# Altium schematic symbol library TCM.SchLib: 17 symbols
Pins are listed as number, name and electrical type; pins without a type are passive.

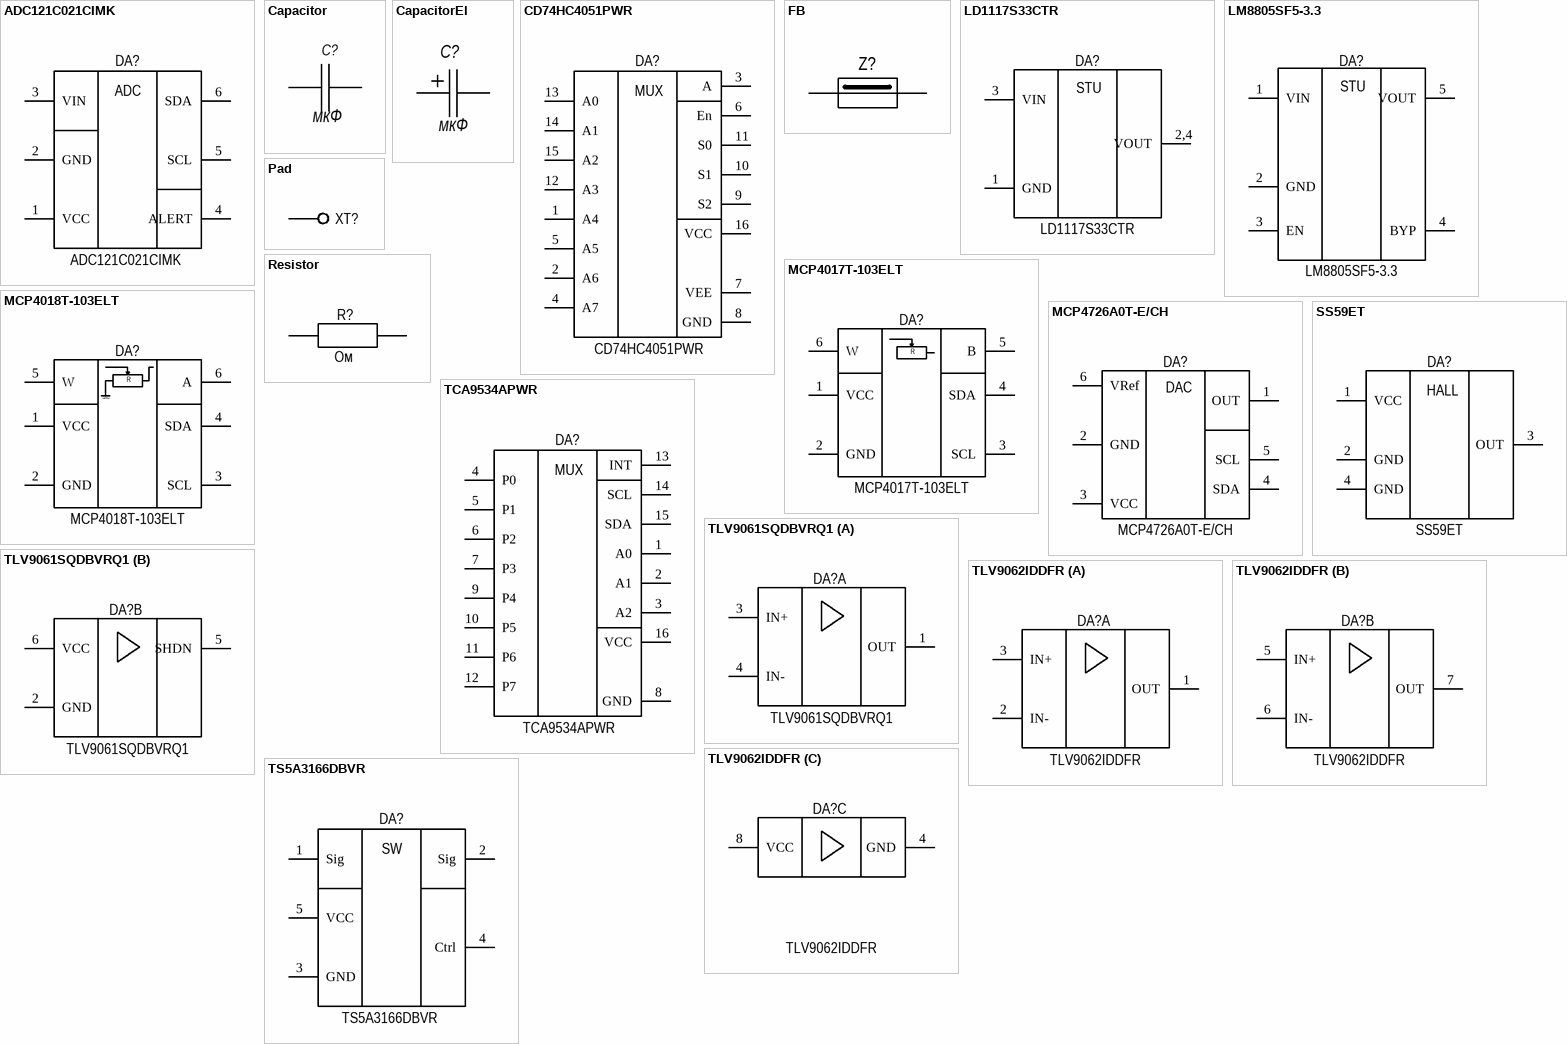
[diagram p0: symbols ADC121C021CIMK to TS5A3166DBVR]

## ADC121C021CIMK
designator DA?
I2C-Compatible, 12-Bit Analog-to-Digital Converter with Alert Pin 6-SOT-23-THIN -40 to 105
footprint SOT-23-6
pins: 1 VCC, 2 GND, 3 VIN, 4 ALERT, 5 SCL, 6 SDA
text: ADC

## Capacitor
designator C?, comment мкФ
Volume: мкФ
footprint CC0402 (Chip Capacitor, Body 1.0x0.5mm, IPC High Density)
footprint CC0603 (Chip Capacitor, Body 1.6x0.8mm, IPC High Density)
footprint CC0805 (Chip Capacitor, Body 2.0x1.3mm, IPC High Density)
footprint CC1206 (Chip Resistor, Body 3.2x1.6mm, IPC Medium Density)
footprint CC1210 (Chip Capasitor, Body 3.2x2.5mm, IPC Medium Density)
pins: 1 GND, 2 GND

## CapacitorEl
designator C?, comment мкФ
Volume: мкФ
footprint CE-A (Hitano EHV series size A, d=4 mm, l=5.5 mm)
footprint CE-B (Hitano EHV series size B, d=5 mm, l=5.5 mm)
footprint CE-C (Capacitor, Aluminium Electrolytric, 6.6mm L X 6.6mm W X 5.4mm H, IPC Medium Density)
footprint CE-D (Capacitor, Aluminium Electrolytric, 8.3mm L X 8.3mm W X 6.5mm H, IPC Medium Density)
footprint CE-E
footprint CE-F (Hitano EHV series size F, d=10 mm, l=10.5 mm)
footprint T491A (Capacitor, SM Tantalum; Body 3.2 x 1.6 mm (LxW typ))
footprint T491B (Capacitor, SM Tantalum; Body 3.5 x 2.8 mm (LxW typ))
footprint T491C (Capacitor, SM Tantalum; Body 6.0 x 3.2 mm (LxW typ))
footprint T491D (Capacitor, SM Tantalum; Body 7.3 x 4.3 mm (LxW typ))
footprint T491R (Capacitor, SM Tantalum; Body 2.0 x 1.3 mm (LxW typ))
footprint T491R (Capacitor, SM Tantalum; Body 2.0 x 1.3 mm (LxW typ))
footprint T491S (Capacitor, SM Tantalum; Body 3.2 x 1.6 mm (LxW typ))
footprint T491T (Capacitor, SM Tantalum; Body 3.5 x 2.8 mm (LxW typ))
footprint T491U (Capacitor, SM Tantalum; Body 6.0 x 3.2 mm (LxW typ))
footprint T491V (Capacitor, SM Tantalum; Body 7.3 x 4.3 mm (LxW typ))
footprint T491X (Capacitor, SM Tantalum; Body 7.3 x 4.3 mm (LxW typ))
footprint Tantalum type A
footprint Tantalum type B
footprint Tantalum type D
pins: 1 GND, 2 GND

## CD74HC4051PWR
designator DA?
5-V, 8:1, 1-channel analog multiplexer 16-TSSOP -55 to 125
footprint TSSOP-16
pins: 1 A4, 2 A6, 3 A, 4 A7, 5 A5, 6 En, 7 VEE, 8 GND, 9 S2, 10 S1, 11 S0, 12 A3, 13 A0, 14 A1, 15 A2, 16 VCC
text: MUX

## FB
designator Z?  (value not drawn)
footprint IND0402 (1.6x0.8mm, IPC Medium Density)
footprint IND0603 (1.6x0.8mm, IPC Medium Density)
pins: 1 GND, 2 GND

## LD1117S33CTR
designator DA?
Fixed low drop positive voltage regulator
footprint SOT-223
pins: 1 GND, 2,4 VOUT, 3 VIN
text: STU

## LM8805SF5-3.3
designator DA?
The LM8805 series is a low-dropout linear regulator. / There are devices designed specifically for batteryoperated systems. Ground current is very small (50uATyp), that significantly extending battery life. Low power / consumption and high accuracy is achieved through / CMOS and programmable fuse technologies. Output / voltage: 1.5V to 6.0V. /
footprint SOT-23-5
pins: 1 VIN, 2 GND, 3 EN, 4 BYP, 5 VOUT
text: STU

## MCP4017T-103ELT
designator DA?
MCP4018T-103ELT Digital Rheostat 10k
footprint SC-70-6
pins: 1 VCC, 2 GND, 3 SCL, 4 SDA, 5 B, 6 W
text: R

## MCP4018T-103ELT
designator DA?
MCP4018T-103ELT Digital Potentiometr 10k
footprint SC-70-6
pins: 1 VCC, 2 GND, 3 SCL, 4 SDA, 5 W, 6 A
text: R

## MCP4726A0T-E/CH
designator DA?
MCP4726A0T-E/CH DAC 12-bit
footprint SOT-23-6
pins: 1 OUT, 2 GND, 3 VCC, 4 SDA, 5 SCL, 6 VRef
text: DAC

## Pad
designator XT?  (value not drawn)
footprint PAD
pins: 1

## Resistor
designator R?, comment Ом
Volume: Ом
footprint RC0402 (Chip Resistor, Body 1.1x0.5mm, IPC Medium Density)
footprint RC0603 (Chip Resistor, Body 1.6x0.8mm, IPC High Density)
footprint RC0805 (Chip Resistor, Body 2.0x1.3mm, IPC High Density)
footprint RC1206 (Chip Resistor, Body 3.2x1.6mm, IPC Medium Density)
footprint RC1210 (Chip Resistor, Body 3.2x2.5mm, IPC Medium Density)
footprint RC2010 (Chip Resistor, Body 5.3x2.5mm, IPC Medium Density.)
footprint RC2512 (Chip Resistor, Body 6.3x3.2mm, IPC Medium Density)
pins: 1 GND, 2 GND

## SS59ET
designator DA?
SS59ET Honeywell Linear Hall-effect sensor
footprint SOT-89B
pins: 1 VCC, 2 GND, 3 OUT, 4 GND
text: HALL

## TCA9534APWR
designator DA?
8-bit 1.65- to 5.5-V I2C/SMBus I/O expander with interrupt, & config registers 16-TSSOP -40 to 85
footprint TSSOP-16
pins: 1 A0, 2 A1, 3 A2, 4 P0, 5 P1, 6 P2, 7 P3, 8 GND, 9 P4, 10 P5, 11 P6, 12 P7, 13 INT, 14 SCL, 15 SDA, 16 VCC
text: MUX

## TLV9061SQDBVRQ1
designator DA?
Automotive, single, 5.5-V 10-MHz rail-to-rail input and output operational amplifier 6-SOT-23 -40 to 125
footprint SOT-23-6
part A pins: 1 OUT, 3 IN+, 4 IN-
part B pins: 2 GND, 5 SHDN, 6 VCC

## TLV9062IDDFR
designator DA?
TLV9062IDDFR 2-gate OPAMP / Automotive, 5.5-V 10-MHz rail-to-rail input and output operational amplifier SOT-23-8 -40 to 125
footprint SOT-23-8
part A pins: 1 OUT, 2 IN-, 3 IN+
part B pins: 5 IN+, 6 IN-, 7 OUT
part C pins: 4 GND, 8 VCC

## TS5A3166DBVR
designator DA?
0.9Ohm on-state resistance, 5-V, 1:1 (SPST), 1-channel analog switch (active high) 5-SOT-23 -40 to 85
footprint SOT-23-5
pins: 1 Sig, 2 Sig, 3 GND, 4 Ctrl, 5 VCC
text: SW